# Altium footprint library KeyBoard.PcbLib: 8 footprints
Each footprint in its own frame and in the unit in brackets; x right, y up, seen from the top. Pads: shape width x height; smd on the part's side, far side on the other; paste and mask are expansions set on the pad; w line width, h text height; cw(c..) or ccw(c..) is an arc to the next point about the centre after c.
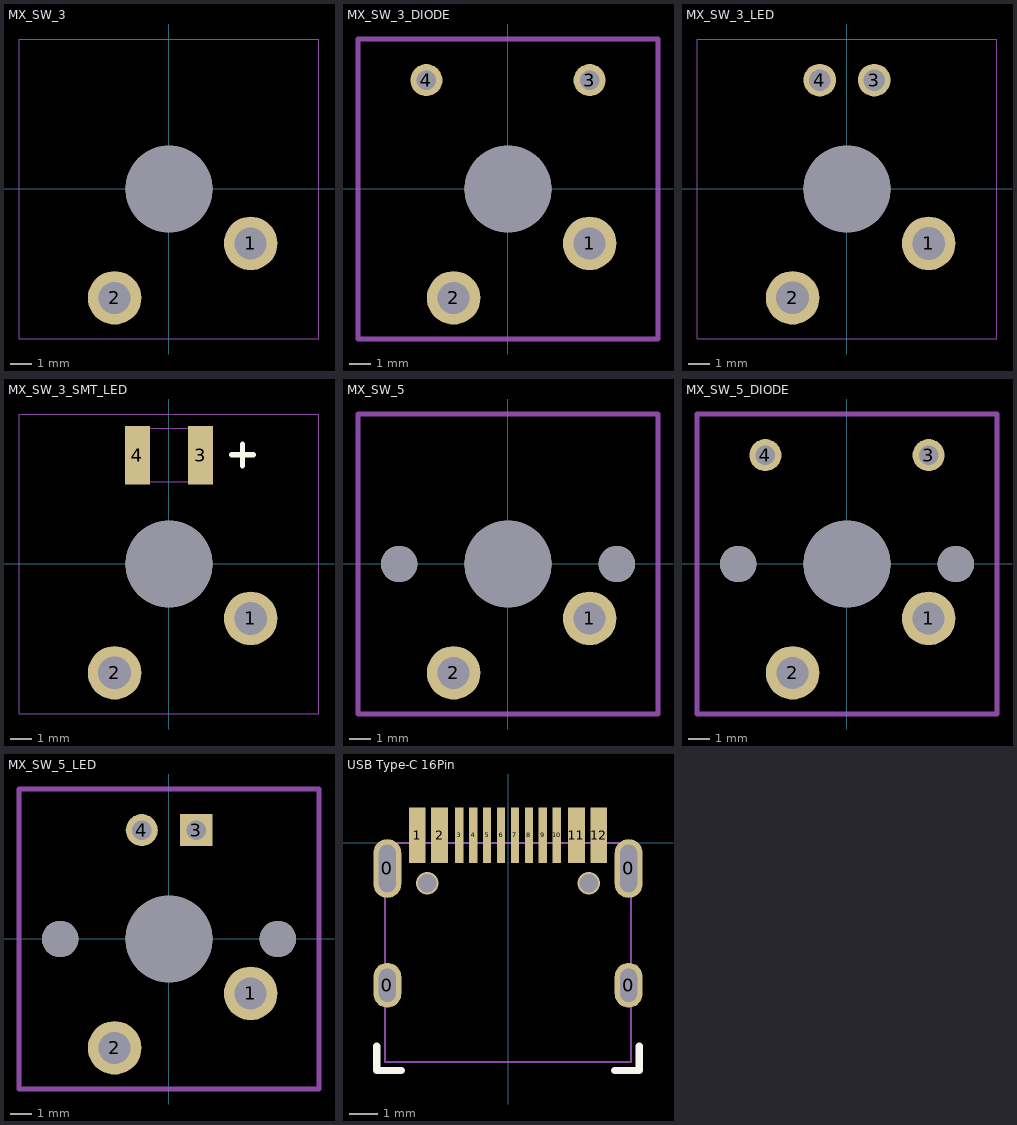
[diagram p0: the footprints below, top view; thin cyan lines are the x and y axes]

## MX_SW_3 [mm] "without Fixation pins  1-Pole"
pads (3):
  round 2.5 hole 1.5: 1(3.81,-2.54) 2(-2.54,-5.08)
  round 4.064 hole 4.064: ""(0,0)
Mechanical 1:
  lines w0.038: -7,-7 -7,7 7,7 7,-7 -7,-7
3D body "User Library-cherry_mx_r4_keycap.STEP": height 20.86, standoff 11.1, extent -9,-9 9,9
3D body "User Library-MX-Blue.STEP": height 15.16, standoff -3.74, extent -7.8,-7.853 7.8,7.747

## MX_SW_3_DIODE [mm] "without Fixation pins  1-Pole w/Diode"
pads (5):
  round 2.5 hole 1.5: 1(3.81,-2.54) 2(-2.54,-5.08)
  round 1.5 hole 0.9: 3(3.81,5.08) 4(-3.81,5.08)
  round 4.064 hole 4.064: ""(0,0)
Mechanical 1:
  lines w0.254: -7,-7 7,-7 7,7 -7,7 -7,-7

## MX_SW_3_LED [mil] "without Fixation pins  1-Pole w/LED"
pads (5):
  round 98.43 hole 60: 1(150,-100) 2(-100,-200)
  round 60 hole 40: 3(50,200) 4(-50,200)
  round 160 hole 160: ""(0,0)
Mechanical 1:
  lines w1.5: -275.59,-275.59 275.59,-275.59 275.59,275.59 -275.59,275.59 -275.59,-275.59
3D body "User Library-MX-Blue.STEP": height 596.85, standoff -147.24, extent -307.08,-309.17 307.09,305
3D body "User Library-cherry_mx_r4_keycap.STEP": height 821.14, standoff 437.01, extent -354.33,-354.33 354.33,354.33

## MX_SW_3_SMT_LED [mm]
pads (5):
  round 2.5 hole 1.524: 1(3.81,-2.54) 2(-2.54,-5.08)
  rect 1.16x2.72 smd: 3(1.475,5.08) 4(-1.475,5.08)
  round 4.064 hole 4.064: ""(0,0)
Top Overlay:
  lines w0.254: 2.921,5.105 3.937,5.105 ; 3.429,4.572 3.429,5.588
Mechanical 1:
  lines w0.038: -7,-7 -7,7 7,7 7,-7 -7,-7
Mechanical 13:
  lines w0.05: -1.6,3.83 -1.6,6.33 1.6,6.33 1.6,3.83 -1.6,3.83
3D body "User Library-Led_3528_SingleColor.step": height 1.9, standoff 0, extent -1.75,3.706 1.75,6.506
3D body "User Library-cherry_mx_r4_keycap.STEP": height 20.86, standoff 11.1, extent -9,-9 9,9
3D body "User Library-MX-Blue.STEP": height 15.16, standoff -3.74, extent -7.8,-7.853 7.8,7.747

## MX_SW_5 [mil] "with Fixation pins  1-Pole"
pads (5):
  round 98.43 hole 59.06: 1(150,-100) 2(-100,-200)
  round 67 hole 67: ""(-200,0) ""(200,0)
  round 160 hole 160: ""(0,0)
Mechanical 1:
  lines w10: -275.59,-275.59 -275.59,275.59 275.59,275.59 275.59,-275.59 -275.59,-275.59

## MX_SW_5_DIODE [mm] "with Fixation pins  1-Pole w/Diode"
pads (7):
  round 2.5 hole 1.5: 1(3.81,-2.54) 2(-2.54,-5.08)
  round 1.5 hole 0.9: 3(3.81,5.08) 4(-3.81,5.08)
  round 1.702 hole 1.702: ""(-5.08,0) ""(5.08,0)
  round 4.064 hole 4.064: ""(0,0)
Mechanical 1:
  lines w0.254: -7,-7 7,-7 7,7 -7,7 -7,-7

## MX_SW_5_LED [mm] "with Fixation pins  1-Pole w/LED"
pads (7):
  round 2.5 hole 1.5: 1(3.81,-2.54) 2(-2.54,-5.08)
  rect 1.5x1.5 hole 0.9: 3(1.27,5.08)
  round 1.5 hole 0.9: 4(-1.27,5.08)
  round 1.702 hole 1.702: ""(-5.08,0) ""(5.08,0)
  round 4.064 hole 4.064: ""(0,0)
Mechanical 1:
  lines w0.254: -7,-7 -7,7 7,7 7,-7 -7,-7

## USB Type-C 16Pin [mm] "USB Type-C without USB 3.0"
height 3.21
pads (16):
  oval 1x1.6 hole 0.6 slot 1.2 at 90 deg: 0(-4.32,-5.095) 0(4.32,-5.095)
  oval 1x2.1 hole 0.6 slot 1.7 at 90 deg: 0(-4.32,-0.915) 0(4.32,-0.915)
  rect 0.6x2 smd mask+0.051: 1(-3.25,0.275) 2(-2.45,0.275) 11(2.45,0.275) 12(3.25,0.275)
  rect 0.3x2 smd mask+0.051: 3(-1.75,0.275) 4(-1.25,0.275) 5(-0.75,0.275) 6(-0.25,0.275) 7(0.25,0.275) 8(0.75,0.275) 9(1.25,0.275) 10(1.75,0.275)
via -2.89,-1.445 diameter 0.8 hole 0.65
via 2.89,-1.445 diameter 0.8 hole 0.65
Top Overlay:
  lines w0.254: -4.699,-7.264 -4.699,-8.153 -3.81,-8.153 ; 3.81,-8.153 4.699,-8.153 4.699,-7.264
Mechanical 1:
  lines w0.076: -4.4,-7.846 4.4,-7.846 4.4,0 -4.4,0 -4.4,-7.846